# EAGLE library part L3GD20TR (library imu)
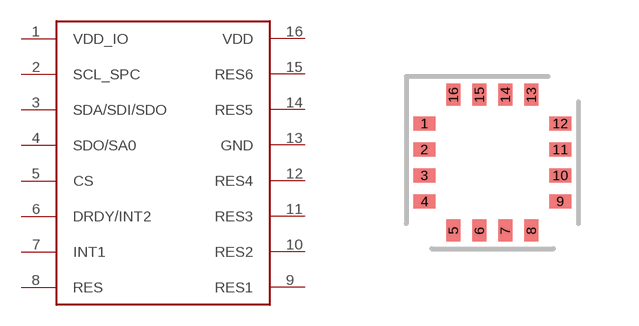
[diagram p0: symbol with the pads of 16-VFLGA; footprint 16-VFLGA]

Designator prefix -

## L3GD20TR (DIGIKEY: L3GD20TR)  [16-VFLGA]
1  VDD_IO
2  SCL_SPC
3  SDA/SDI/SDO
4  SDO/SA0
5  CS
6  DRDY/INT2
7  INT1
8  RES
9  RES1
10  RES2
11  RES3
12  RES4
13  GND
14  RES5
15  RES6
16  VDD

## Footprint 16-VFLGA (pad centres in mm)
smd 0.55 x 0.35: 1 -1.7,0.975; 2 -1.7,0.325; 3 -1.7,-0.325; 4 -1.7,-0.975; 9 1.7,-0.975; 10 1.7,-0.325; 11 1.7,0.325; 12 1.7,0.975
smd 0.35 x 0.55: 5 -0.975,-1.7; 6 -0.325,-1.7; 7 0.325,-1.7; 8 0.975,-1.7; 13 0.975,1.7; 14 0.325,1.7; 15 -0.325,1.7; 16 -0.975,1.7